# EAGLE library part EDR201A0500 (library MyDuino)
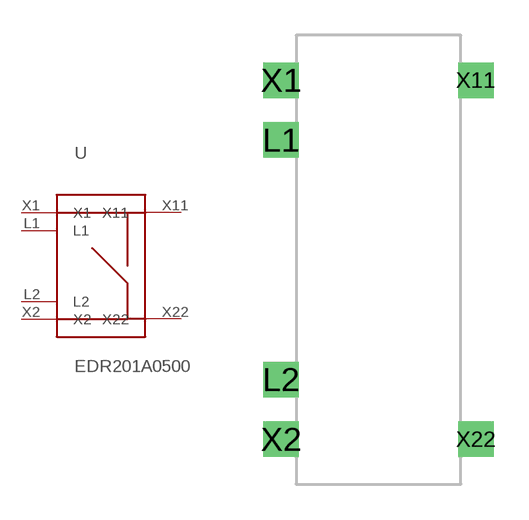
[diagram p6: symbol with the pads of EDR201A0500; footprint EDR201A0500]

Designator prefix -

## EDR201A0500  [EDR201A0500]
L1  L1
L2  L2
X1  X1
X2  X2
X11  X11
X22  X22

## Footprint EDR201A0500 (pad centres in mm)
drill 1 square: L1 -2.54,5.08; L2 -2.54,-5.08; X1 -2.54,7.62; X2 -2.54,-7.62; X11 5.715,7.62; X22 5.715,-7.62